# Altium schematic symbol library PCM1865.SchLib: 1 symbol
Pins are listed as number, name and electrical type; pins without a type are passive.

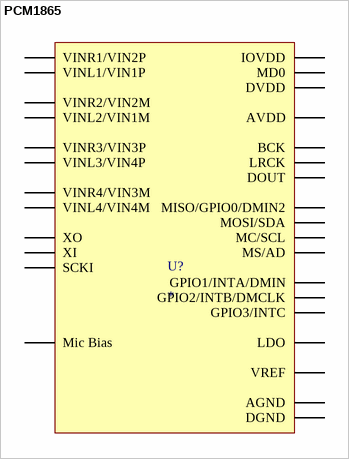
[diagram p0: symbol PCM1865]

## PCM1865
designator U?
pins: 1 VINL2/VIN1M, 2 VINR2/VIN2M, 3 VINL1/VIN1P, 4 VINR1/VIN2P, 5 Mic Bias, 6 VREF, 7 AGND, 8 AVDD, 9 XO, 10 XI, 11 LDO, 12 DGND, 13 DVDD, 14 IOVDD, 15 SCKI, 16 LRCK, 17 BCK, 18 DOUT, 19 GPIO3/INTC, 20 GPIO2/INTB/DMCLK, 21 GPIO1/INTA/DMIN, 22 MISO/GPIO0/DMIN2, 23 MOSI/SDA, 24 MC/SCL, 25 MS/AD, 26 MD0, 27 VINL4/VIN4M, 28 VINR4/VIN3M, 29 VINL3/VIN4P, 30 VINR3/VIN3P